# EAGLE library part PIXHAWK2_NUF2042XV6 (library PX4FMUv2.4)
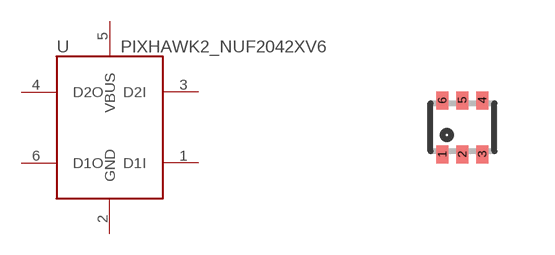
[diagram p21: symbol with the pads of PIXHAWK2_SOT563-6; footprint PIXHAWK2_SOT563-6]

Designator prefix -

## PIXHAWK2_NUF2042XV6  [PIXHAWK2_SOT563-6]
1  D1I
2  GND
3  D2I
4  D2O
5  VBUS
6  D1O

## Footprint PIXHAWK2_SOT563-6 (pad centres in mm)
smd 0.3 x 0.45: 1 -0.5,-0.675; 2 0,-0.675; 3 0.5,-0.675; 4 0.5,0.675; 5 0,0.675; 6 -0.5,0.675